# Altium footprint library max44009.PcbLib: 3 footprints
Each footprint in its own frame and in the unit in brackets; x right, y up, seen from the top. Pads: shape width x height; smd on the part's side, far side on the other; paste and mask are expansions set on the pad; w line width, h text height; cw(c..) or ccw(c..) is an arc to the next point about the centre after c.
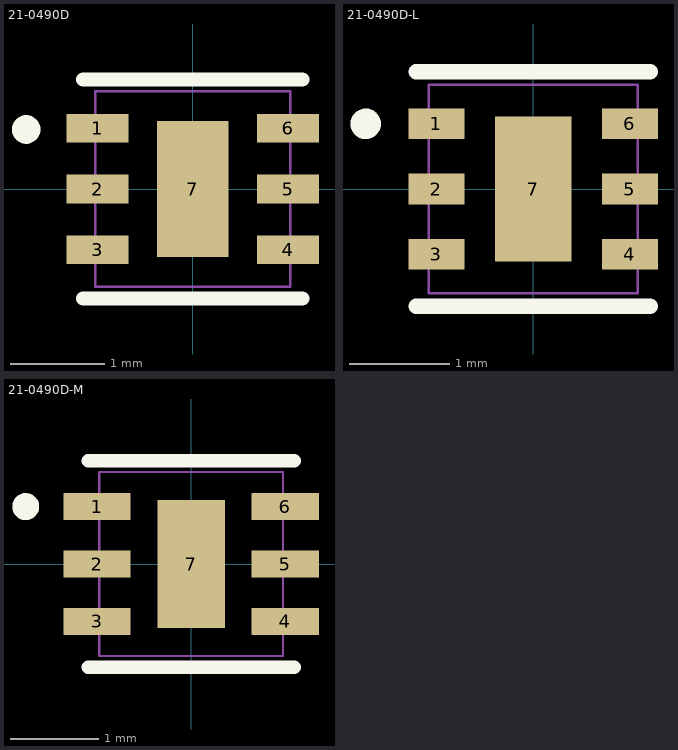
[diagram p0: the footprints below, top view; thin cyan lines are the x and y axes]

## 21-0490D [mil]
pads (7):
  rect 26x12 smd: 1(-40,25.59) 2(-40,0) 3(-40,-25.59) 4(40,-25.59) 5(40,0) 6(40,25.59)
  rect 30x57 smd: 7(0,0)
Top Overlay:
  circle w6: c-70,25 r3
  lines w6: -46,-46 46,-46 ; -46,46 46,46
Outline:
  lines w1: -41,-41 41,-41 41,41 -41,41 -41,-41
3D body: height 26.1, standoff 0, extent -40.98,-40.98 40.99,40.99

## 21-0490D-L [mil]
pads (7):
  rect 22x12 smd: 1(-38,25.59) 2(-38,0) 3(-38,-25.59) 4(38,-25.59) 5(38,0) 6(38,25.59)
  rect 30x57 smd: 7(0,0)
Top Overlay:
  circle w6: c-65.8,25.59 r3
  lines w6: -46,-46 46,-46 ; -46,46 46,46
Outline:
  lines w1: -41,-41 -41,41 41,41 41,-41 -41,-41
3D body: height 26.1, standoff 0, extent -40.98,-40.98 40.99,40.99

## 21-0490D-M [mil]
pads (7):
  rect 30x12 smd: 1(-42,25.59) 2(-42,0) 3(-42,-25.59) 4(42,-25.59) 5(42,0) 6(42,25.59)
  rect 30x57 smd: 7(0,0)
Top Overlay:
  circle w6: c-73.8,25.59 r3
  lines w6: -46,-46 46,-46 ; -46,46 46,46
Outline:
  lines w1: -41,-41 41,-41 41,41 -41,41 -41,-41
3D body: height 26.1, standoff 0, extent -40.98,-40.98 40.99,40.99